# Altium footprint library SM_SW_TactSPST_6x4x2.5mm.PcbLib: 1 footprints
Each footprint in its own frame and in the unit in brackets; x right, y up, seen from the top. Pads: shape width x height; smd on the part's side, far side on the other; paste and mask are expansions set on the pad; w line width, h text height; cw(c..) or ccw(c..) is an arc to the next point about the centre after c.
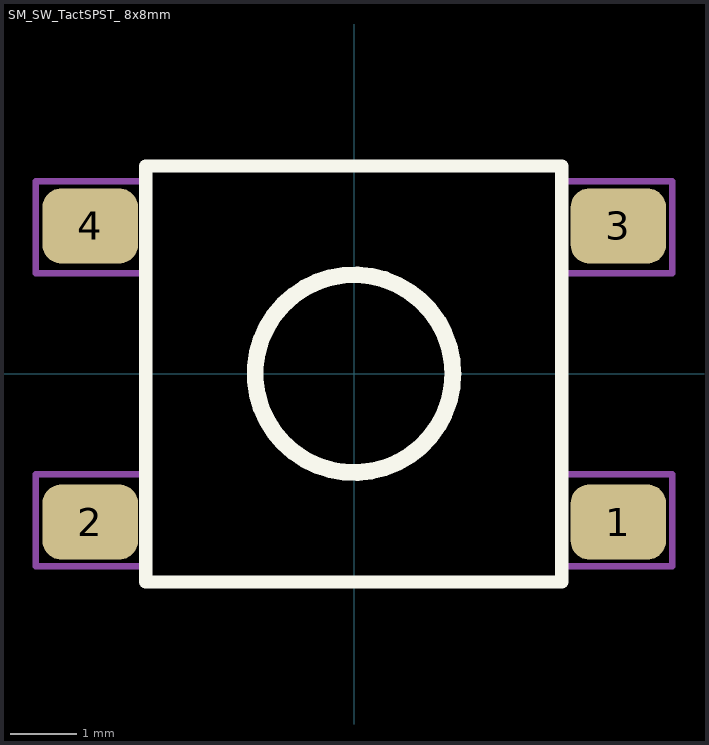
[diagram p0: the footprint, top view; thin cyan lines are the x and y axes]

## SM_SW_TactSPST_ 8x8mm [mil] "Switch, Through-Hole, 4 Leads, Body 8.5x8.5mm"
pads (4):
  rrect50% 57x45 smd: 1(157.87,-88.58) 2(-157.48,-88.58) 3(157.87,88.19) 4(-157.48,88.19)
Top Overlay:
  circle w10: c0,0 r59.06
  lines w7.87: -124.41,-124.41 124.02,-124.41 124.02,124.02 -124.41,124.02 -124.41,-124.41
Mechanical 7:
  circle w3.94: c0,0 r59.06
  lines w3.94: -124.41,-115 -190,-115 -190,-60 -124.41,-60 ; -124.41,60 -190,60 -190,115 -124.41,115 ; 124.02,-115 190,-115 190,-60 124.02,-60 ; 124.02,60 190,60 190,115 124.02,115 ; -124.41,-124.41 -124.41,124.02 124.02,124.02 124.02,-124.41 -124.41,-124.41
  text ".Designator" at -114.17,82.68 h47.24
  text ".Comment" at -114.17,-102.36 h47.24
3D body "Switch SPNO - DTSM-6.stp": height 177.17, standoff 0, extent -177.16,-122.04 177.17,122.05